# Altium footprint library SCH-29364_a_Library.PcbLib: 21 footprints (part 1 of 2)
Each footprint in its own frame and in the unit in brackets; x right, y up, seen from the top. Pads: shape width x height; smd on the part's side, far side on the other; paste and mask are expansions set on the pad; w line width, h text height; cw(c..) or ccw(c..) is an arc to the next point about the centre after c.
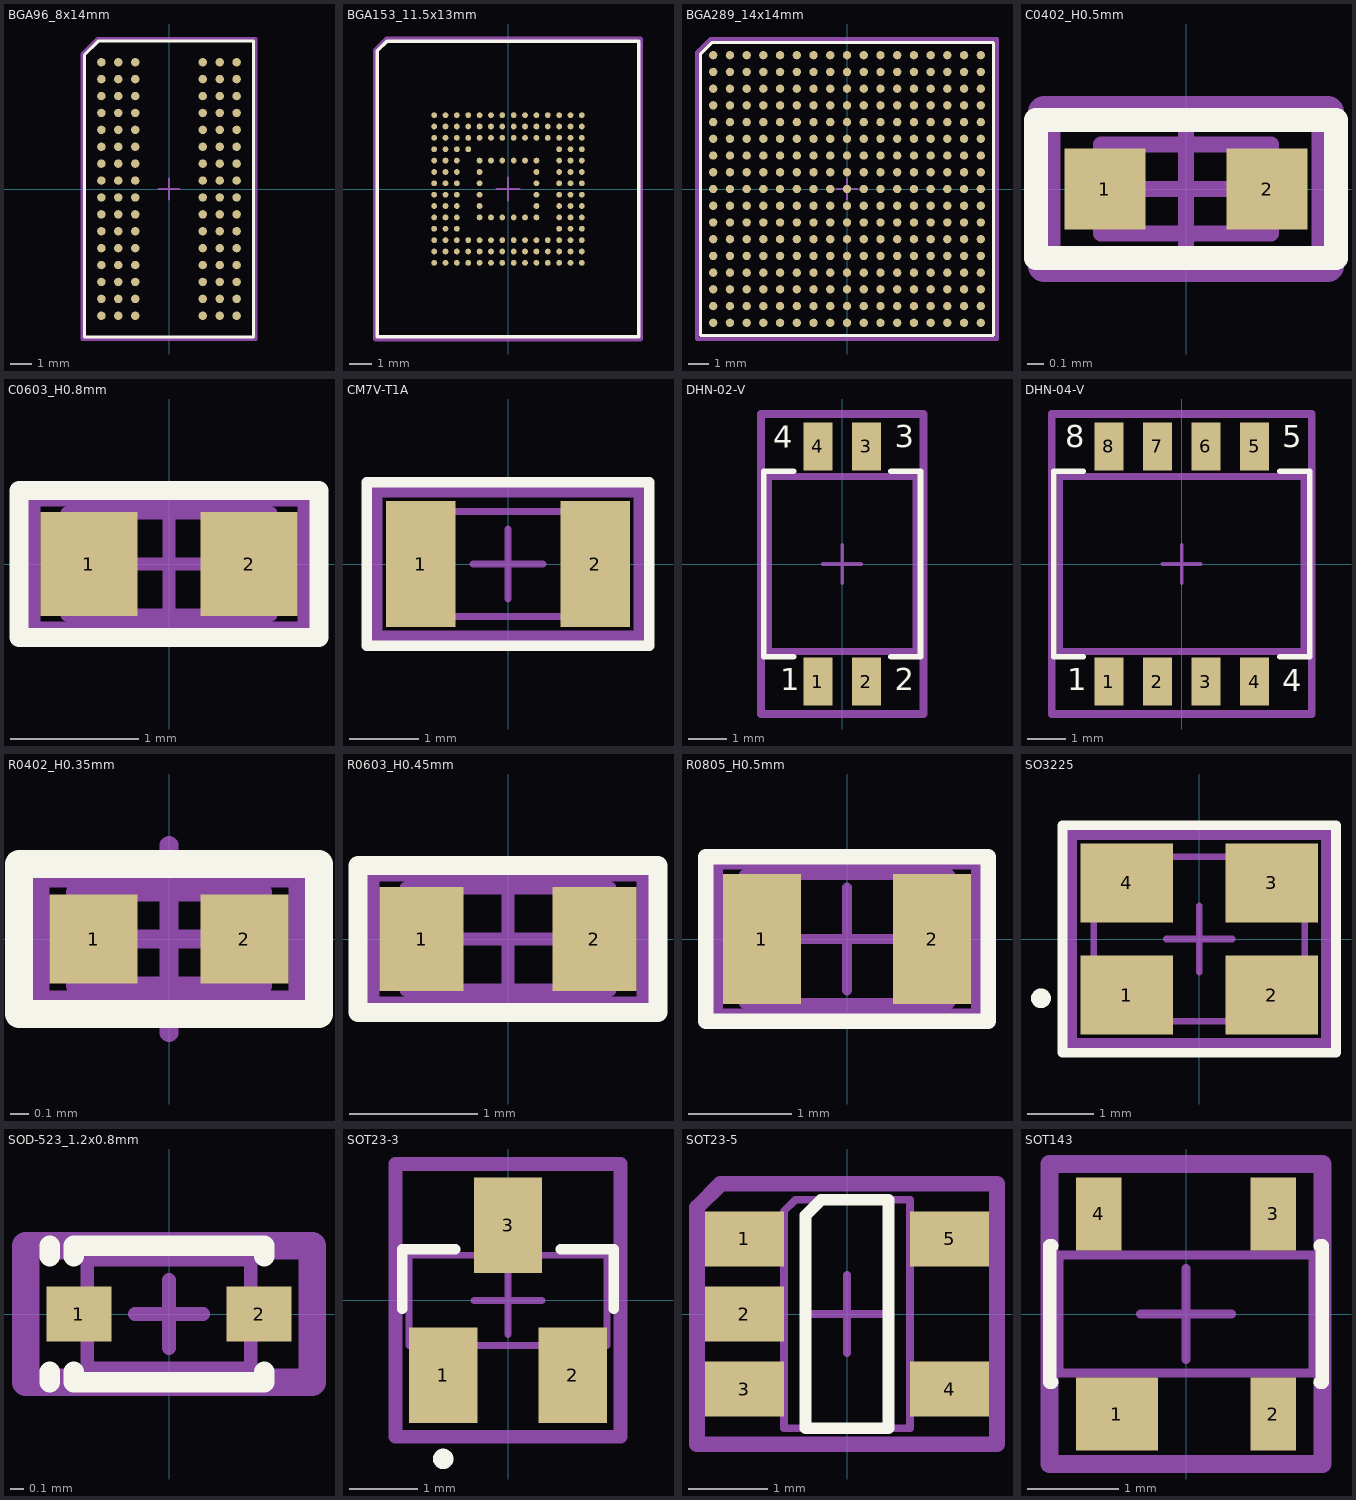
[diagram p0: the footprints below, top view; thin cyan lines are the x and y axes]

## BGA96_8x14mm [mm] "pitch 0.8mm"
height 1.2
pads (96):
  round 0.399 smd paste+0 mask+0: A1(-3.2,6) A2(-2.4,6) A3(-1.6,6) A7(1.6,6) A8(2.4,6) A9(3.2,6) B1(-3.2,5.2) B2(-2.4,5.2) B3(-1.6,5.2) B7(1.6,5.2) B8(2.4,5.2) B9(3.2,5.2) C1(-3.2,4.4) C2(-2.4,4.4) C3(-1.6,4.4) C7(1.6,4.4) C8(2.4,4.4) C9(3.2,4.4) D1(-3.2,3.6) D2(-2.4,3.6) D3(-1.6,3.6) D7(1.6,3.6) D8(2.4,3.6) D9(3.2,3.6) E1(-3.2,2.8) E2(-2.4,2.8) E3(-1.6,2.8) E7(1.6,2.8) E8(2.4,2.8) E9(3.2,2.8) F1(-3.2,2) F2(-2.4,2) F3(-1.6,2) F7(1.6,2) F8(2.4,2) F9(3.2,2) G1(-3.2,1.2) G2(-2.4,1.2) G3(-1.6,1.2) G7(1.6,1.2) G8(2.4,1.2) G9(3.2,1.2) H1(-3.2,0.4) H2(-2.4,0.4) H3(-1.6,0.4) H7(1.6,0.4) H8(2.4,0.4) H9(3.2,0.4) J1(-3.2,-0.4) J2(-2.4,-0.4) J3(-1.6,-0.4) J7(1.6,-0.4) J8(2.4,-0.4) J9(3.2,-0.4) K1(-3.2,-1.2) K2(-2.4,-1.2) K3(-1.6,-1.2) K7(1.6,-1.2) K8(2.4,-1.2) K9(3.2,-1.2) L1(-3.2,-2) L2(-2.4,-2) L3(-1.6,-2) L7(1.6,-2) L8(2.4,-2) L9(3.2,-2) M1(-3.2,-2.8) M2(-2.4,-2.8) M3(-1.6,-2.8) M7(1.6,-2.8) M8(2.4,-2.8) M9(3.2,-2.8) N1(-3.2,-3.6) N2(-2.4,-3.6) N3(-1.6,-3.6) N7(1.6,-3.6) N8(2.4,-3.6) N9(3.2,-3.6) P1(-3.2,-4.4) P2(-2.4,-4.4) P3(-1.6,-4.4) P7(1.6,-4.4) P8(2.4,-4.4) P9(3.2,-4.4) R1(-3.2,-5.2) R2(-2.4,-5.2) R3(-1.6,-5.2) R7(1.6,-5.2) R8(2.4,-5.2) R9(3.2,-5.2) T1(-3.2,-6) T2(-2.4,-6) T3(-1.6,-6) T7(1.6,-6) T8(2.4,-6) T9(3.2,-6)
Top Overlay:
  lines w0.15: -4,-7 -4,6.35 -3.35,7 4,7 4,-7 -4,-7
Mechanical 10:
  lines w0.2: -4.1,-7.1 -4.1,6.375 -3.375,7.1 4.1,7.1 4.1,-7.1 -4.1,-7.1
  text ".Designator" at 0,0 h1
Mechanical 12:
  lines w0.1: -4,-7 -4,6.35 -3.35,7 4,7 4,-7 -4,-7
Mechanical 15:
  lines w0.1: -0.5,0 0.5,0 ; 0,-0.5 0,0.5
  lines w0.2: -4.1,-7.1 -4.1,6.375 -3.375,7.1 4.1,7.1 4.1,-7.1 -4.1,-7.1
3D body "IC_Micron_MT41K256M16TW-107-P_eec.STEP": height 0.25, standoff 0, extent -4.1,-7.1 4.1,7.1

## BGA153_11.5x13mm [mm] "pitch 0.5mm"
height 1
pads (153):
  round 0.255 smd paste+0 mask+0: A1(-3.25,3.25) A2(-2.75,3.25) A3(-2.25,3.25) A4(-1.75,3.25) A5(-1.25,3.25) A6(-0.75,3.25) A7(-0.25,3.25) A8(0.25,3.25) A9(0.75,3.25) A10(1.25,3.25) A11(1.75,3.25) A12(2.25,3.25) A13(2.75,3.25) A14(3.25,3.25) B1(-3.25,2.75) B2(-2.75,2.75) B3(-2.25,2.75) B4(-1.75,2.75) B5(-1.25,2.75) B6(-0.75,2.75) B7(-0.25,2.75) B8(0.25,2.75) B9(0.75,2.75) B10(1.25,2.75) B11(1.75,2.75) B12(2.25,2.75) B13(2.75,2.75) B14(3.25,2.75) C1(-3.25,2.25) C2(-2.75,2.25) C3(-2.25,2.25) C4(-1.75,2.25) C5(-1.25,2.25) C6(-0.75,2.25) C7(-0.25,2.25) C8(0.25,2.25) C9(0.75,2.25) C10(1.25,2.25) C11(1.75,2.25) C12(2.25,2.25) C13(2.75,2.25) C14(3.25,2.25) D1(-3.25,1.75) D2(-2.75,1.75) D3(-2.25,1.75) D4(-1.75,1.75) D12(2.25,1.75) D13(2.75,1.75) D14(3.25,1.75) E1(-3.25,1.25) E2(-2.75,1.25) E3(-2.25,1.25) E5(-1.25,1.25) E6(-0.75,1.25) E7(-0.25,1.25) E8(0.25,1.25) E9(0.75,1.25) E10(1.25,1.25) E12(2.25,1.25) E13(2.75,1.25) E14(3.25,1.25) F1(-3.25,0.75) F2(-2.75,0.75) F3(-2.25,0.75) F5(-1.25,0.75) F10(1.25,0.75) F12(2.25,0.75) F13(2.75,0.75) F14(3.25,0.75) G1(-3.25,0.25) G2(-2.75,0.25) G3(-2.25,0.25) G5(-1.25,0.25) G10(1.25,0.25) G12(2.25,0.25) G13(2.75,0.25) G14(3.25,0.25) H1(-3.25,-0.25) H2(-2.75,-0.25) H3(-2.25,-0.25) H5(-1.25,-0.25) H10(1.25,-0.25) H12(2.25,-0.25) H13(2.75,-0.25) H14(3.25,-0.25) J1(-3.25,-0.75) J2(-2.75,-0.75) J3(-2.25,-0.75) J5(-1.25,-0.75) J10(1.25,-0.75) J12(2.25,-0.75) J13(2.75,-0.75) J14(3.25,-0.75) K1(-3.25,-1.25) K2(-2.75,-1.25) K3(-2.25,-1.25) K5(-1.25,-1.25) K6(-0.75,-1.25) K7(-0.25,-1.25) K8(0.25,-1.25) K9(0.75,-1.25) K10(1.25,-1.25) K12(2.25,-1.25) K13(2.75,-1.25) K14(3.25,-1.25) L1(-3.25,-1.75) L2(-2.75,-1.75) L3(-2.25,-1.75) L12(2.25,-1.75) L13(2.75,-1.75) L14(3.25,-1.75) M1(-3.25,-2.25) M2(-2.75,-2.25) M3(-2.25,-2.25) M4(-1.75,-2.25) M5(-1.25,-2.25) M6(-0.75,-2.25) M7(-0.25,-2.25) M8(0.25,-2.25) M9(0.75,-2.25) M10(1.25,-2.25) M11(1.75,-2.25) M12(2.25,-2.25) M13(2.75,-2.25) M14(3.25,-2.25) N1(-3.25,-2.75) N2(-2.75,-2.75) N3(-2.25,-2.75) N4(-1.75,-2.75) N5(-1.25,-2.75) N6(-0.75,-2.75) N7(-0.25,-2.75) N8(0.25,-2.75) N9(0.75,-2.75) N10(1.25,-2.75) N11(1.75,-2.75) N12(2.25,-2.75) N13(2.75,-2.75) N14(3.25,-2.75) P1(-3.25,-3.25) P2(-2.75,-3.25) P3(-2.25,-3.25) P4(-1.75,-3.25) P5(-1.25,-3.25) P6(-0.75,-3.25) P7(-0.25,-3.25) P8(0.25,-3.25) P9(0.75,-3.25) P10(1.25,-3.25) P11(1.75,-3.25) P12(2.25,-3.25) P13(2.75,-3.25) P14(3.25,-3.25)
Top Overlay:
  lines w0.15: -5.75,-6.5 -5.75,6.075 -5.325,6.5 5.75,6.5 5.75,-6.5 -5.75,-6.5
Mechanical 10:
  lines w0.1: -5.85,-6.6 -5.85,6.1 -5.35,6.6 5.85,6.6 5.85,-6.6 -5.85,-6.6
  text ".Designator" at 0,0 h1
Mechanical 12:
  lines w0.1: -5.75,-6.5 -5.75,6.075 -5.325,6.5 5.75,6.5 5.75,-6.5 -5.75,-6.5
Mechanical 15:
  lines w0.1: -0.5,0 0.5,0 ; 0,-0.5 0,0.5
  lines w0.2: -5.85,-6.6 -5.85,6.1 -5.35,6.6 5.85,6.6 5.85,-6.6 -5.85,-6.6
3D body "IC_Samsung_KLM4G1YE4C-B001_eec.STEP": height 0.25, standoff 0, extent -5.85,-6.6 5.85,6.6

## BGA289_14x14mm [mm] "pitch 0.8mm"
height 1.32
pads (289):
  round 0.4 smd paste+0 mask+0: A1(-6.4,6.4) A2(-5.6,6.4) A3(-4.8,6.4) A4(-4,6.4) A5(-3.2,6.4) A6(-2.4,6.4) A7(-1.6,6.4) A8(-0.8,6.4) A9(0,6.4) A10(0.8,6.4) A11(1.6,6.4) A12(2.4,6.4) A13(3.2,6.4) A14(4,6.4) A15(4.8,6.4) A16(5.6,6.4) A17(6.4,6.4) B1(-6.4,5.6) B2(-5.6,5.6) B3(-4.8,5.6) B4(-4,5.6) B5(-3.2,5.6) B6(-2.4,5.6) B7(-1.6,5.6) B8(-0.8,5.6) B9(0,5.6) B10(0.8,5.6) B11(1.6,5.6) B12(2.4,5.6) B13(3.2,5.6) B14(4,5.6) B15(4.8,5.6) B16(5.6,5.6) B17(6.4,5.6) C1(-6.4,4.8) C2(-5.6,4.8) C3(-4.8,4.8) C4(-4,4.8) C5(-3.2,4.8) C6(-2.4,4.8) C7(-1.6,4.8) C8(-0.8,4.8) C9(0,4.8) C10(0.8,4.8) C11(1.6,4.8) C12(2.4,4.8) C13(3.2,4.8) C14(4,4.8) C15(4.8,4.8) C16(5.6,4.8) C17(6.4,4.8) D1(-6.4,4) D2(-5.6,4) D3(-4.8,4) D4(-4,4) D5(-3.2,4) D6(-2.4,4) D7(-1.6,4) D8(-0.8,4) D9(0,4) D10(0.8,4) D11(1.6,4) D12(2.4,4) D13(3.2,4) D14(4,4) D15(4.8,4) D16(5.6,4) D17(6.4,4) E1(-6.4,3.2) E2(-5.6,3.2) E3(-4.8,3.2) E4(-4,3.2) E5(-3.2,3.2) E6(-2.4,3.2) E7(-1.6,3.2) E8(-0.8,3.2) E9(0,3.2) E10(0.8,3.2) E11(1.6,3.2) E12(2.4,3.2) E13(3.2,3.2) E14(4,3.2) E15(4.8,3.2) E16(5.6,3.2) E17(6.4,3.2) F1(-6.4,2.4) F2(-5.6,2.4) F3(-4.8,2.4) F4(-4,2.4) F5(-3.2,2.4) F6(-2.4,2.4) F7(-1.6,2.4) F8(-0.8,2.4) F9(0,2.4) F10(0.8,2.4) F11(1.6,2.4) F12(2.4,2.4) F13(3.2,2.4) F14(4,2.4) F15(4.8,2.4) F16(5.6,2.4) F17(6.4,2.4) G1(-6.4,1.6) G2(-5.6,1.6) G3(-4.8,1.6) G4(-4,1.6) G5(-3.2,1.6) G6(-2.4,1.6) G7(-1.6,1.6) G8(-0.8,1.6) G9(0,1.6) G10(0.8,1.6) G11(1.6,1.6) G12(2.4,1.6) G13(3.2,1.6) G14(4,1.6) G15(4.8,1.6) G16(5.6,1.6) G17(6.4,1.6) H1(-6.4,0.8) H2(-5.6,0.8) H3(-4.8,0.8) H4(-4,0.8) H5(-3.2,0.8) H6(-2.4,0.8) H7(-1.6,0.8) H8(-0.8,0.8) H9(0,0.8) H10(0.8,0.8) H11(1.6,0.8) H12(2.4,0.8) H13(3.2,0.8) H14(4,0.8) H15(4.8,0.8) H16(5.6,0.8) H17(6.4,0.8) J1(-6.4,0) J2(-5.6,0) J3(-4.8,0) J4(-4,0) J5(-3.2,0) J6(-2.4,0) J7(-1.6,0) J8(-0.8,0) J9(0,0) J10(0.8,0) J11(1.6,0) J12(2.4,0) J13(3.2,0) J14(4,0) J15(4.8,0) J16(5.6,0) J17(6.4,0) K1(-6.4,-0.8) K2(-5.6,-0.8) K3(-4.8,-0.8) K4(-4,-0.8) K5(-3.2,-0.8) K6(-2.4,-0.8) K7(-1.6,-0.8) K8(-0.8,-0.8) K9(0,-0.8) K10(0.8,-0.8) K11(1.6,-0.8) K12(2.4,-0.8) K13(3.2,-0.8) K14(4,-0.8) K15(4.8,-0.8) K16(5.6,-0.8) K17(6.4,-0.8) L1(-6.4,-1.6) L2(-5.6,-1.6) L3(-4.8,-1.6) L4(-4,-1.6) L5(-3.2,-1.6) L6(-2.4,-1.6) L7(-1.6,-1.6) L8(-0.8,-1.6) L9(0,-1.6) L10(0.8,-1.6) L11(1.6,-1.6) L12(2.4,-1.6) L13(3.2,-1.6) L14(4,-1.6) L15(4.8,-1.6) L16(5.6,-1.6) L17(6.4,-1.6) M1(-6.4,-2.4) M2(-5.6,-2.4) M3(-4.8,-2.4) M4(-4,-2.4) M5(-3.2,-2.4) M6(-2.4,-2.4) M7(-1.6,-2.4) M8(-0.8,-2.4) M9(0,-2.4) M10(0.8,-2.4) M11(1.6,-2.4) M12(2.4,-2.4) M13(3.2,-2.4) M14(4,-2.4) M15(4.8,-2.4) M16(5.6,-2.4) M17(6.4,-2.4) N1(-6.4,-3.2) N2(-5.6,-3.2) N3(-4.8,-3.2) N4(-4,-3.2) N5(-3.2,-3.2) N6(-2.4,-3.2) N7(-1.6,-3.2) N8(-0.8,-3.2) N9(0,-3.2) N10(0.8,-3.2) N11(1.6,-3.2) N12(2.4,-3.2) N13(3.2,-3.2) N14(4,-3.2) N15(4.8,-3.2) N16(5.6,-3.2) N17(6.4,-3.2) P1(-6.4,-4) P2(-5.6,-4) P3(-4.8,-4) P4(-4,-4) P5(-3.2,-4) P6(-2.4,-4) P7(-1.6,-4) P8(-0.8,-4) P9(0,-4) P10(0.8,-4) P11(1.6,-4) P12(2.4,-4) P13(3.2,-4) P14(4,-4) P15(4.8,-4) P16(5.6,-4) P17(6.4,-4) R1(-6.4,-4.8) R2(-5.6,-4.8) R3(-4.8,-4.8) R4(-4,-4.8) R5(-3.2,-4.8) R6(-2.4,-4.8) R7(-1.6,-4.8) R8(-0.8,-4.8) R9(0,-4.8) R10(0.8,-4.8) R11(1.6,-4.8) R12(2.4,-4.8) R13(3.2,-4.8) R14(4,-4.8) R15(4.8,-4.8) R16(5.6,-4.8) R17(6.4,-4.8) T1(-6.4,-5.6) T2(-5.6,-5.6) T3(-4.8,-5.6) T4(-4,-5.6) T5(-3.2,-5.6) T6(-2.4,-5.6) T7(-1.6,-5.6) T8(-0.8,-5.6) T9(0,-5.6) T10(0.8,-5.6) T11(1.6,-5.6) T12(2.4,-5.6) T13(3.2,-5.6) T14(4,-5.6) T15(4.8,-5.6) T16(5.6,-5.6) T17(6.4,-5.6) U1(-6.4,-6.4) U2(-5.6,-6.4) U3(-4.8,-6.4) U4(-4,-6.4) U5(-3.2,-6.4) U6(-2.4,-6.4) U7(-1.6,-6.4) U8(-0.8,-6.4) U9(0,-6.4) U10(0.8,-6.4) U11(1.6,-6.4) U12(2.4,-6.4) U13(3.2,-6.4) U14(4,-6.4) U15(4.8,-6.4) U16(5.6,-6.4) U17(6.4,-6.4)
Top Overlay:
  lines w0.15: -7,-7 -7,6.475 -6.475,7 7,7 7,-7 -7,-7
Mechanical 10:
  lines w0.1: -7.175,-7.175 -7.175,6.525 -6.525,7.175 7.175,7.175 7.175,-7.175 -7.175,-7.175
  text ".Designator" at 0,0 h1
Mechanical 12:
  lines w0.1: -7,-7 -7,6.475 -6.475,7 7,7 7,-7 -7,-7
Mechanical 15:
  lines w0.1: -0.5,0 0.5,0 ; 0,-0.5 0,0.5
  lines w0.2: -7.175,-7.175 -7.175,6.525 -6.525,7.175 7.175,7.175 7.175,-7.175 -7.175,-7.175
3D body "IC_NXP_MCIMX6Y2DVM05AA_eec.STEP": height 0.25, standoff 0, extent -7.175,-7.175 7.175,7.175

## C0402_H0.5mm [mm]
height 0.5
pads (2):
  rect 0.5x0.5 smd paste+0 mask+0: 1(-0.5,0) 2(0.5,0)
Top Overlay:
  lines w0.15: -0.925,-0.425 0.925,-0.425 0.925,0.425 -0.925,0.425 -0.925,-0.425
Mechanical 10:
  lines w0.1: -0.875,-0.475 -0.875,0.475 0.875,0.475 0.875,-0.475 -0.875,-0.475
  text ".Designator" at 0,0 h1
Mechanical 12:
  lines w0.1: -0.525,-0.275 -0.525,0.275 0.525,0.275 0.525,-0.275 -0.525,-0.275
Mechanical 15:
  lines w0.1: -0.5,0 0.5,0 ; 0,-0.5 0,0.5
  lines w0.2: -0.875,-0.475 -0.875,0.475 0.875,0.475 0.875,-0.475 -0.875,-0.475
3D body "Cap_YAGEO_CC0402KRX5R8BB104_eec.STEP": height 0.25, standoff 0, extent -0.875,-0.475 0.875,0.475

## C0603_H0.8mm [mm]
height 0.8
pads (2):
  rect 0.758x0.812 smd paste+0 mask+0: 1(-0.627,0) 2(0.627,0)
Top Overlay:
  lines w0.15: -1.175,-0.575 1.175,-0.575 1.175,0.575 -1.175,0.575 -1.175,-0.575
Mechanical 10:
  lines w0.1: -1.106,-0.55 1.106,-0.55 1.106,0.55 -1.106,0.55 -1.106,-0.55
  text ".Designator" at 0,0.188 h1
Mechanical 12:
  lines w0.1: -0.8,-0.4 0.8,-0.4 0.8,0.4 -0.8,0.4 -0.8,-0.4
Mechanical 15:
  lines w0.1: -0.5,0 0.5,0 ; 0,-0.5 0,0.5
  lines w0.2: -1.106,-0.55 1.106,-0.55 1.106,0.55 -1.106,0.55 -1.106,-0.55
3D body "Cap_Samsung_CL10A226MQ8NRNE_eec.STEP": height 0.25, standoff 0, extent -1.106,-0.55 1.106,0.55

## CM7V-T1A [mm] "CM7V-T1A-32.768kHz-12.5pF-20PPM-TA-QC"
height 0.65
pads (2):
  rect 1x1.8 smd: 1(-1.25,0) 2(1.25,0)
Top Overlay:
  lines w0.15: -2.025,-1.175 2.025,-1.175 2.025,1.175 -2.025,1.175 -2.025,-1.175
Mechanical 10:
  lines w0.1: -1.9,-1.05 1.9,-1.05 1.9,1.05 -1.9,1.05 -1.9,-1.05
  text ".Designator" at 0,0.188 h1
Mechanical 12:
  lines w0.1: -1.6,-0.75 1.6,-0.75 1.6,0.75 -1.6,0.75 -1.6,-0.75
Mechanical 15:
  lines w0.1: -0.5,0 0.5,0 ; 0,-0.5 0,0.5
  lines w0.2: -1.9,-1.05 1.9,-1.05 1.9,1.05 -1.9,1.05 -1.9,-1.05
3D body: height 0.65, standoff 0, extent -1.6,-0.75 1.6,0.75

## DHN-02-V [mm] "DIP-SWITCH"
height 1.6
pads (4):
  rect 0.76x1.25 smd: 1(-0.635,-3.075) 2(0.635,-3.075) 3(0.635,3.075) 4(-0.635,3.075)
Top Overlay:
  lines w0.15: -1.275,-2.425 -2.05,-2.425 -2.05,2.425 -1.275,2.425 ; 1.275,-2.425 2.05,-2.425 2.05,2.425 1.275,2.425
  text "4" at -1.8,2.85 h1
  text "3" at 1.375,2.861 h1
  text "2" at 1.374,-3.5 h1
  text "1" at -1.625,-3.5 h1
Mechanical 10:
  lines w0.1: -1.95,-2.325 -1.95,2.325 1.95,2.325 1.95,-2.325 -1.95,-2.325
  text ".Designator" at 0,0.188 h1
Mechanical 12:
  lines w0.1: -1.885,-2.25 1.885,-2.25 1.885,2.25 -1.885,2.25 -1.885,-2.25
Mechanical 15:
  lines w0.1: -0.5,0 0.5,0 ; 0,-0.5 0,0.5
  lines w0.2: -2.125,-3.925 2.125,-3.925 2.125,3.925 -2.125,3.925 -2.125,-3.925

## DHN-04-V [mm] "DIP-SWITCH"
height 1.6
pads (8):
  rect 0.76x1.25 smd: 1(-1.905,-3.075) 2(-0.635,-3.075) 3(0.635,-3.075) 4(1.905,-3.075) 5(1.905,3.075) 6(0.635,3.075) 7(-0.635,3.075) 8(-1.905,3.075)
Top Overlay:
  lines w0.15: -2.575,-2.425 -3.35,-2.425 -3.35,2.425 -2.575,2.425 ; 2.575,-2.425 3.35,-2.425 3.35,2.425 2.575,2.425
  text "1" at -3,-3.5 h1
  text "4" at 2.625,-3.525 h1
  text "5" at 2.625,2.861 h1
  text "8" at -3.05,2.861 h1
Mechanical 10:
  lines w0.1: -3.225,-2.325 3.225,-2.325 3.225,2.325 -3.225,2.325 -3.225,-2.325
  text ".Designator" at 0,0.188 h1
Mechanical 12:
  lines w0.1: -3.155,-2.25 -3.155,2.25 3.155,2.25 3.155,-2.25 -3.155,-2.25
Mechanical 15:
  lines w0.1: -0.5,0 0.5,0 ; 0,-0.5 0,0.5
  lines w0.2: -3.4,-3.925 -3.4,3.925 3.4,3.925 3.4,-3.925 -3.4,-3.925

## R0402_H0.35mm [mm]
height 0.35
pads (2):
  rect 0.468x0.472 smd paste+0 mask+0: 1(-0.402,0) 2(0.402,0)
Top Overlay:
  lines w0.15: -0.8,-0.4 -0.8,0.4 0.8,0.4 0.8,-0.4 -0.8,-0.4
Mechanical 10:
  lines w0.1: -0.736,-0.375 0.736,-0.375 0.736,0.375 -0.736,0.375 -0.736,-0.375
  text ".Designator" at 0,0.188 h1
Mechanical 12:
  lines w0.1: -0.5,-0.25 0.5,-0.25 0.5,0.25 -0.5,0.25 -0.5,-0.25
Mechanical 15:
  lines w0.1: -0.5,0 0.5,0 ; 0,-0.5 0,0.5
  lines w0.2: -0.736,-0.375 0.736,-0.375 0.736,0.375 -0.736,0.375 -0.736,-0.375
3D body "Res_Vishay_CRCW04021K00JNED_eec.STEP": height 0.25, standoff 0, extent -0.736,-0.375 0.736,0.375

## R0603_H0.45mm [mm]
height 0.45
pads (2):
  rect 0.659x0.812 smd paste+0 mask+0: 1(-0.677,0) 2(0.677,0)
Top Overlay:
  lines w0.15: -1.175,-0.575 1.175,-0.575 1.175,0.575 -1.175,0.575 -1.175,-0.575
Mechanical 10:
  lines w0.1: -1.106,-0.55 -1.106,0.55 1.106,0.55 1.106,-0.55 -1.106,-0.55
  text ".Designator" at 0,0 h1
Mechanical 12:
  lines w0.1: -0.8,-0.4 -0.8,0.4 0.8,0.4 0.8,-0.4 -0.8,-0.4
Mechanical 15:
  lines w0.1: -0.5,0 0.5,0 ; 0,-0.5 0,0.5
  lines w0.2: -1.106,-0.55 -1.106,0.55 1.106,0.55 1.106,-0.55 -1.106,-0.55
3D body "Res_Yageo_RC0603FR-070RL_eec.STEP": height 0.25, standoff 0, extent -1.106,-0.55 1.106,0.55

## R0805_H0.5mm [mm]
height 0.5
pads (2):
  rect 0.758x1.262 smd paste+0 mask+0: 1(-0.827,0) 2(0.827,0)
Top Overlay:
  lines w0.15: -1.375,-0.8 1.375,-0.8 1.375,0.8 -1.375,0.8 -1.375,-0.8
Mechanical 10:
  lines w0.1: -1.306,-0.775 -1.306,0.775 1.306,0.775 1.306,-0.775 -1.306,-0.775
  text ".Designator" at 0,0 h1
Mechanical 12:
  lines w0.1: -1,-0.625 -1,0.625 1,0.625 1,-0.625 -1,-0.625
Mechanical 15:
  lines w0.1: -0.5,0 0.5,0 ; 0,-0.5 0,0.5
  lines w0.2: -1.306,-0.775 -1.306,0.775 1.306,0.775 1.306,-0.775 -1.306,-0.775
3D body "Res_YAGEO_RC0805JR-070RL_eec.STEP": height 0.25, standoff 0, extent -1.306,-0.775 1.306,0.775

## SO3225 [mm]
height 0.9
pads (4):
  rect 1.4x1.2 smd: 1(-1.1,-0.85) 2(1.1,-0.85) 3(1.1,0.85) 4(-1.1,0.85)
Top Overlay:
  circle w0.15: c-2.4,-0.9 r0.075
  lines w0.15: -2.075,-1.725 -2.075,1.725 2.075,1.725 2.075,-1.725 -2.075,-1.725
Mechanical 10:
  lines w0.1: -1.95,-1.6 -1.95,1.6 1.95,1.6 1.95,-1.6 -1.95,-1.6
  text ".Designator" at 0,0.188 h1
Mechanical 12:
  lines w0.1: -1.6,-1.25 -1.6,1.25 1.6,1.25 1.6,-1.25 -1.6,-1.25
Mechanical 15:
  lines w0.1: -0.5,0 0.5,0 ; 0,-0.5 0,0.5
  lines w0.2: -1.95,-1.6 1.95,-1.6 1.95,1.6 -1.95,1.6 -1.95,-1.6
3D body: height 0.9, standoff 0, extent -1.6,-1.25 1.6,1.25

## SOD-523_1.2x0.8mm [mm] "CASE 502-01"
height 0.7
pads (2):
  rect 0.48x0.4 smd mask+0.05: 1(-0.66,0) 2(0.66,0)
Top Overlay:
  lines w0.15: -0.875,-0.5 -0.875,-0.425 ; -0.875,0.425 -0.875,0.5 ; -0.7,-0.425 -0.7,-0.5 0.7,-0.5 0.7,-0.425 ; -0.7,0.425 -0.7,0.5 0.7,0.5 0.7,0.425
Mechanical 10:
  lines w0.1: -1.1,-0.475 1.1,-0.475 1.1,0.475 -1.1,0.475 -1.1,-0.475
  text ".Designator" at 0,0.188 h1
Mechanical 12:
  lines w0.1: -0.6,-0.4 -0.6,0.4 0.6,0.4 0.6,-0.4 -0.6,-0.4
Mechanical 15:
  lines w0.1: -0.25,0 0.25,0 ; 0,-0.25 0,0.25
  lines w0.2: -1.05,-0.5 1.05,-0.5 1.05,0.5 -1.05,0.5 -1.05,-0.5
3D body: height 0.7, standoff 0, extent -0.6,-0.4 0.6,0.4

## SOT23-3 [mm]
height 1.4
pads (3):
  rect 1x1.4 smd: 1(-0.95,-1.1) 2(0.95,-1.1) 3(0,1.1)
Top Overlay:
  circle w0.15: c-0.95,-2.325 r0.075
  lines w0.15: -1.55,-0.125 -1.55,0.75 -0.775,0.75 ; 0.775,0.75 1.55,0.75 1.55,-0.125
Mechanical 10:
  lines w0.1: -1.65,-2 -1.65,2 1.65,2 1.65,-2 -1.65,-2
  text ".Designator" at 0,0.188 h1
Mechanical 12:
  lines w0.1: -1.45,-0.66 1.45,-0.66 ; -1.45,-0.65 -1.45,0.65 ; -1.45,0.66 1.45,0.66 ; 1.45,-0.65 1.45,0.65
Mechanical 15:
  lines w0.1: -0.5,0 0.5,0 ; 0,-0.5 0,0.5
  lines w0.2: -1.65,-2 1.65,-2 1.65,2 -1.65,2 -1.65,-2
3D body "SOT23-3.STEP": height 1.25, standoff 0, extent -1.463,-1.325 1.463,1.475

## SOT23-5 [mm]
height 1
pads (5):
  rect 1x0.7 smd paste+0 mask+0: 1(-1.3,0.95) 2(-1.3,0) 3(-1.3,-0.95) 4(1.3,-0.95) 5(1.3,0.95)
Top Overlay:
  lines w0.15: -0.525,-1.448 -0.525,1.25 -0.327,1.448 0.525,1.448 0.525,-1.448 -0.525,-1.448
Mechanical 10:
  lines w0.1: -1.9,-1.649 -1.9,1.35 -1.6,1.649 1.9,1.649 1.9,-1.649 -1.9,-1.649
  text ".Designator" at 0,0 h1
Mechanical 12:
  lines w0.1: -0.8,-1.448 -0.8,1.3 -0.652,1.448 0.8,1.448 0.8,-1.448 -0.8,-1.448
Mechanical 15:
  lines w0.1: -0.495,0 0.495,0 ; 0,-0.495 0,0.495
  lines w0.2: -1.9,-1.649 -1.9,1.35 -1.601,1.649 1.9,1.649 1.9,-1.649 -1.9,-1.649
3D body "SOT-23-5.STEP": height 1.1, standoff 0, extent -1.25,-1.5 1.25,1.5

## SOT143 [mm]
height 1.22
pads (4):
  rect 0.9x0.8 smd: 1(-0.76,-1.1)
  rect 0.5x0.8 smd: 2(0.96,-1.1) 3(0.96,1.1) 4(-0.96,1.1)
Top Overlay:
  lines w0.15: -1.475,-0.75 -1.5,-0.75 -1.5,0.75 -1.475,0.75 ; 1.475,-0.75 1.5,-0.75 1.5,0.75 1.475,0.75
Mechanical 10:
  lines w0.1: -1.5,-1.65 -1.5,1.65 1.5,1.65 1.5,-1.65 -1.5,-1.65
  text ".Designator" at 0,0.188 h1
Mechanical 12:
  lines w0.1: -1.4,-0.65 1.4,-0.65 1.4,0.65 -1.4,0.65 -1.4,-0.65
Mechanical 15:
  lines w0.1: -0.5,0 0.5,0 ; 0,-0.5 0,0.5
  lines w0.2: -1.5,-1.65 -1.5,1.65 1.5,1.65 1.5,-1.65 -1.5,-1.65
3D body "SOT143.STEP": height 1.22, standoff 0, extent -1.45,-1.181 1.45,1.182